# Altium schematic symbol library Cap_Murata_GCM1555C1H301FA16D_300pF.SchLib: 1 symbol
Pins are listed as number, name and electrical type; pins without a type are passive.

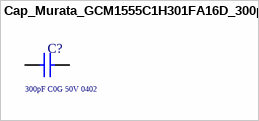
[diagram p0: symbol Cap_Murata_GCM1555C1H301FA16D_300pF]

## Cap_Murata_GCM1555C1H301FA16D_300pF
designator C?, comment Capacitance: 300pF C0G 50V 0402  (hidden comment: GCM1555C1H301FA16D)
CAP CER 300pF 50V C0G 0402; Supplier 1: Mouser; Supplier Part Number 1: 81-GCM1555C1H301FA6D
footprint Cap_Murata_GCM1555C1H301FA16D_300pF
pins: 1, 2